# EAGLE library part JUMPER-6P_DR (library F030NG)
PIN HEADER
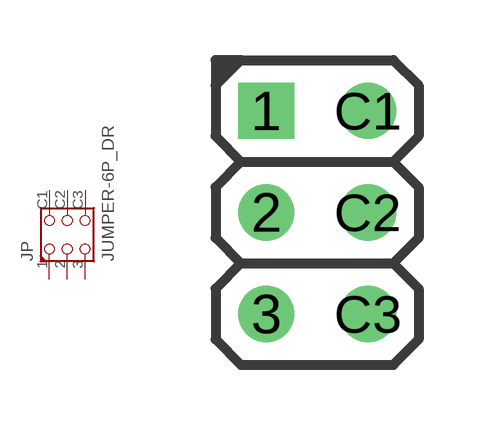
[diagram p89: symbol with the pads of PH_2X03; footprint PH_2X03]

Designator prefix JP

## JUMPER-6P_DR  [PH_2X03]
1  1  pas
2  2  pas
3  3  pas
C1  C1  pas
C2  C2  pas
C3  C3  pas

## Footprint PH_2X03 (pad centres in mm)
PIN HEADER
drill 0.9 square: 1 -1.27,0
drill 0.9: 2 -1.27,-2.54; 3 -1.27,-5.08; C1 1.27,0; C2 1.27,-2.54; C3 1.27,-5.08